# EAGLE library part SI4012 (library Mine)
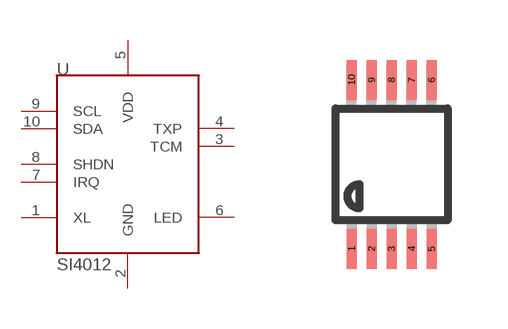
[diagram p74: symbol with the pads of MSOP10; footprint MSOP10]

Designator prefix -

## SI4012  [MSOP10]
1  XL
2  GND  pwr
3  TCM  out
4  TXP  out
5  VDD  pwr
6  LED  out
7  IRQ  out
8  SHDN  in
9  SCL  in
10  SDA

## Footprint MSOP10 (pad centres in mm)
10-Lead Mini Small Outline Package [MSOP] (RM-10) Source: http://www.analog.com/UploadedFiles/Data_Sheets/35641221898805SSM2167_b.pdf COMPLIANT TO JEDEC STANDARDS MO-187BA
smd 0.25 x 1: 1 -1,-2.113; 2 -0.5,-2.113; 3 0,-2.113; 4 0.5,-2.113; 5 1,-2.113; 6 1,2.113; 7 0.5,2.113; 8 0,2.113; 9 -0.5,2.113; 10 -1,2.113